# Altium schematic symbol library CONN 54202-G30-03 ICSP.SchLib: 1 symbol
Pins are listed as number, name and electrical type; pins without a type are passive.

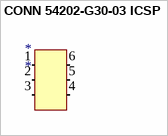
[diagram p0: symbol CONN 54202-G30-03 ICSP]

## CONN 54202-G30-03 ICSP
designator *
pins: 1 (in), 2 (in), 3 (in), 4 (in), 5 (in), 6 (in)